# Altium schematic symbol library CDPcomponents.SchLib: 32 symbols
Pins are listed as number, name and electrical type; pins without a type are passive.

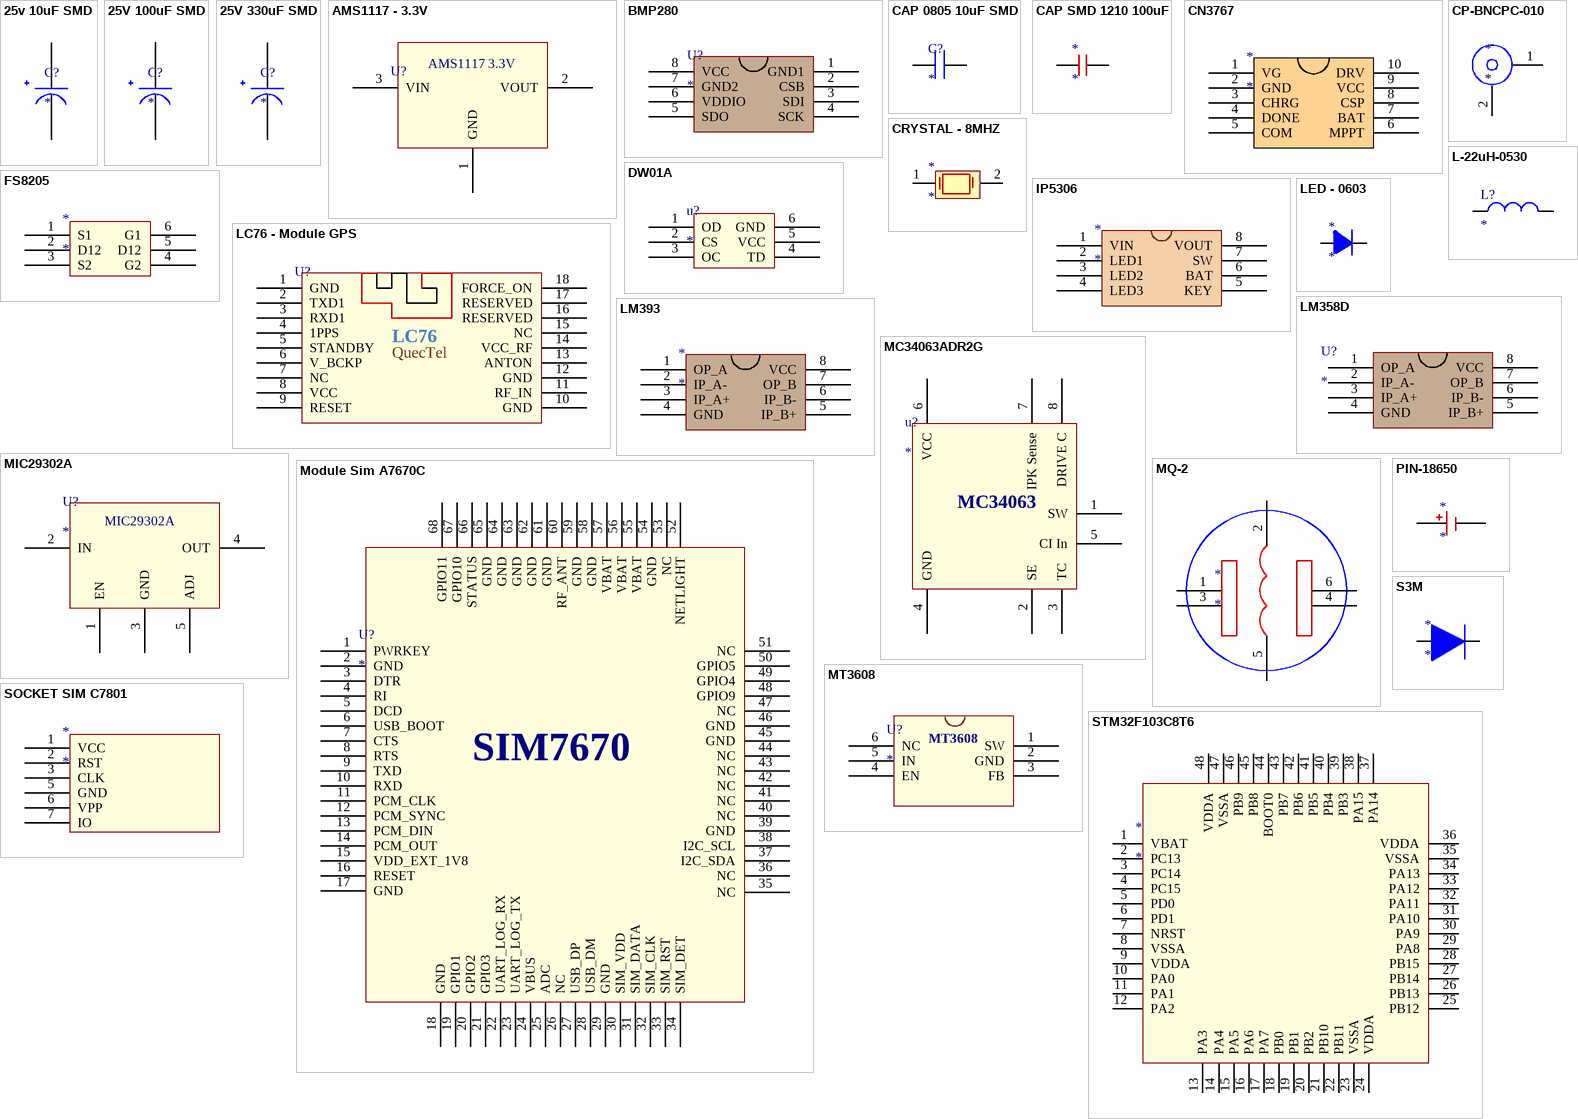
[diagram p0: symbols 25v 10uF SMD to STM32F103C8T6]

## 25v 10uF SMD
designator C?
footprint CAPACITOR 4x5.4mm
pins: 1, 2

## 25V 100uF SMD
designator C?
footprint CAPACITOR 6.3x7.7mm
pins: 1, 2

## 25V 330uF SMD
designator C?
footprint CAPACITOR 8x10mm SMD
pins: 1, 2

## AMS1117 - 3.3V
designator U?  (value not drawn)
footprint AMS1117 -3.3V
pins: 1 GND, 2 VOUT, 3 VIN
text: AMS1117; 3.3V

## BMP280
designator U?
footprint BMP280
pins: 1 GND1, 2 CSB, 3 SDI, 4 SCK, 5 SDO, 6 VDDIO, 7 GND2, 8 VCC

## CAP 0805 10uF SMD
designator C?
footprint CAP 10uF SMD 0805
pins: 1, 2

## CAP SMD 1210 100uF
designator *
footprint 100uF 1210 SMD
pins: 1, 2

## CN3767
designator *
footprint CN3767
pins: 1 VG, 2 GND, 3 CHRG, 4 DONE, 5 COM, 6 MPPT, 7 BAT, 8 CSP, 9 VCC, 10 DRV

## CP-BNCPC-010
designator *
footprint BNC
pins: 1, 2

## CRYSTAL - 8MHZ
designator *
footprint CRYSTAL - 8Mhz
pins: 1, 2

## DW01A
designator u?
footprint DW01A
pins: 1 OD, 2 CS, 3 OC, 4 TD, 5 VCC, 6 GND

## FS8205
designator *
footprint FS8205
pins: 1 S1, 2 D12, 3 S2, 4 G2, 5 D12, 6 G1

## IP5306
designator *
footprint IP5306
pins: 1 VIN, 2 LED1, 3 LED2, 4 LED3, 5 KEY, 6 BAT, 7 SW, 8 VOUT

## L-22uH-0530
designator L?
footprint INDUCTOR-0630-SMD
pins: 1, 2

## LC76 - Module GPS
designator U?, comment LC76 - Module GPS*  (value not drawn)
footprint LC76 - Module GPS (LC760Z00AAMD)
pins: 1 GND, 2 TXD1, 3 RXD1, 4 1PPS, 5 STANDBY, 6 V_BCKP, 7 NC, 8 VCC, 9 RESET, 10 GND, 11 RF_IN, 12 GND, 13 ANTON, 14 VCC_RF, 15 NC, 16 RESERVED, 17 RESERVED, 18 FORCE_ON
text: LC76; QuecTel

## LED - 0603
designator *
footprint LED - 0603
pins: 1 A, 2 K

## LM358D
designator U?
footprint LM358
pins: 1 OP_A, 2 IP_A-, 3 IP_A+, 4 GND, 5 IP_B+, 6 IP_B-, 7 OP_B, 8 VCC

## LM393
designator *
footprint lm393
pins: 1 OP_A, 2 IP_A-, 3 IP_A+, 4 GND, 5 IP_B+, 6 IP_B-, 7 OP_B, 8 VCC

## MC34063ADR2G
designator u?
footprint mc34063a
pins: 1 SW, 2 SE, 3 TC, 4 GND, 5 CI In, 6 VCC, 7 IPK Sense, 8 DRIVE C
text: MC34063

## MIC29302A
designator U?
footprint MIC29302A (MIC29302A - 3.3V 3A)
pins: 1 EN, 2 IN, 3 GND, 4 OUT, 5 ADJ

## Module Sim A7670C
designator U?
footprint Module Sim A7670C
pins: 1 PWRKEY, 2 GND, 3 DTR, 4 RI, 5 DCD, 6 USB_BOOT, 7 CTS, 8 RTS, 9 TXD, 10 RXD, 11 PCM_CLK, 12 PCM_SYNC, 13 PCM_DIN, 14 PCM_OUT, 15 VDD_EXT_1V8, 16 RESET, 17 GND, 18 GND, 19 GPIO1, 20 GPIO2, 21 GPIO3, 22 UART_LOG_RX, 23 UART_LOG_TX, 24 VBUS, 25 ADC, 26 NC, 27 USB_DP, 28 USB_DM, 29 GND, 30 SIM_VDD, 31 SIM_DATA, 32 SIM_CLK, 33 SIM_RST, 34 SIM_DET, 35 NC, 36 NC, 37 I2C_SDA, 38 I2C_SCL, 39 GND, 40 NC, 41 NC, 42 NC, 43 NC, 44 NC, 45 GND, 46 GND, 47 NC, 48 GPIO9, 49 GPIO4, 50 GPIO5, 51 NC, 52 NETLIGHT, 53 NC, 54 GND, 55 VBAT, 56 VBAT, 57 VBAT, 58 GND, 59 GND, 60 RF_ANT, 61 GND, 62 GND, 63 GND, 64 GND, 65 GND, 66 STATUS, 67 GPIO10, 68 GPIO11
text: SIM7670

## MQ-2
designator *
pins: 1, 2, 3, 4, 5, 6

## MT3608
designator U?
footprint MT3608
pins: 1 SW, 2 GND, 3 FB, 4 EN, 5 IN, 6 NC

## PIN-18650
designator *
footprint PIN
pins: 1, 2

## S3M
designator *
footprint S3M
pins: 1 A, 2 K

## SOCKET SIM C7801
designator *
footprint SOCKET SIM
pins: 1 VCC, 2 RST, 3 CLK, 5 GND, 6 VPP, 7 IO

## STM32F103C8T6
designator *
footprint STM32F103C8T6
pins: 1 VBAT, 2 PC13, 3 PC14, 4 PC15, 5 PD0, 6 PD1, 7 NRST, 8 VSSA, 9 VDDA, 10 PA0, 11 PA1, 12 PA2, 13 PA3, 14 PA4, 15 PA5, 16 PA6, 17 PA7, 18 PB0, 19 PB1, 20 PB2, 21 PB10, 22 PB11, 23 VSSA, 24 VDDA, 25 PB12, 26 PB13, 27 PB14, 28 PB15, 29 PA8, 30 PA9, 31 PA10, 32 PA11, 33 PA12, 34 PA13, 35 VSSA, 36 VDDA, 37 PA14, 38 PA15, 39 PB3, 40 PB4, 41 PB5, 42 PB6, 43 PB7, 44 BOOT0, 45 PB8, 46 PB9, 47 VSSA, 48 VDDA

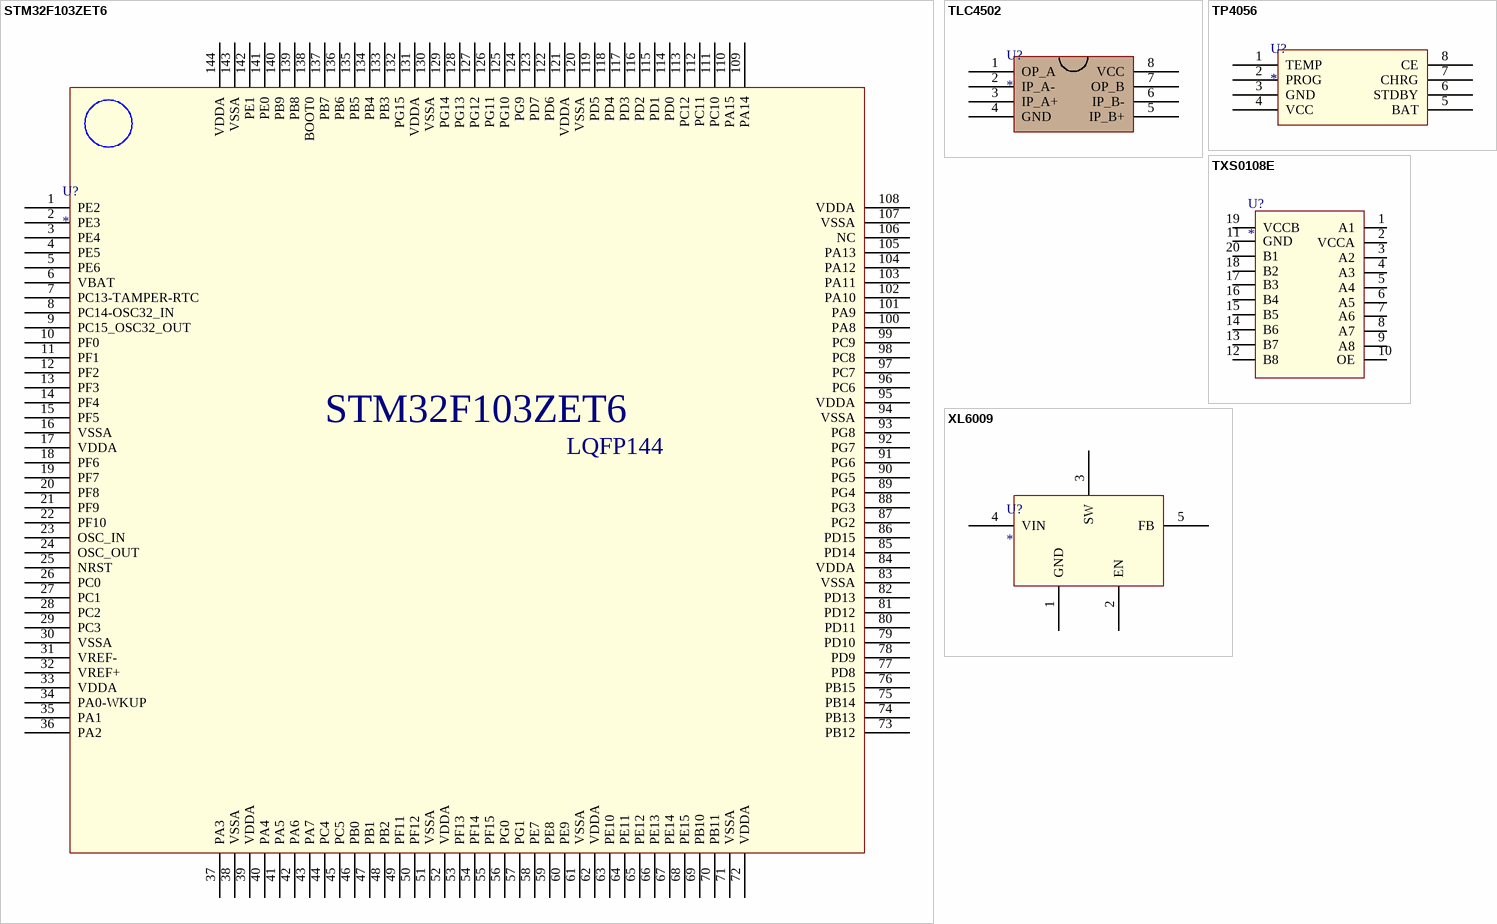
[diagram p1: symbols STM32F103ZET6 to XL6009]

## STM32F103ZET6
designator U?
footprint STM32F103ZET6 (STM32F103ZET6 - LQFP144)
pins: 1 PE2, 2 PE3, 3 PE4, 4 PE5, 5 PE6, 6 VBAT, 7 PC13-TAMPER-RTC, 8 PC14-OSC32_IN, 9 PC15_OSC32_OUT, 10 PF0, 11 PF1, 12 PF2, 13 PF3, 14 PF4, 15 PF5, 16 VSSA, 17 VDDA, 18 PF6, 19 PF7, 20 PF8, 21 PF9, 22 PF10, 23 OSC_IN, 24 OSC_OUT, 25 NRST, 26 PC0, 27 PC1, 28 PC2, 29 PC3, 30 VSSA, 31 VREF-, 32 VREF+, 33 VDDA, 34 PA0-WKUP, 35 PA1, 36 PA2, 37 PA3, 38 VSSA, 39 VDDA, 40 PA4, 41 PA5, 42 PA6, 43 PA7, 44 PC4, 45 PC5, 46 PB0, 47 PB1, 48 PB2, 49 PF11, 50 PF12, 51 VSSA, 52 VDDA, 53 PF13, 54 PF14, 55 PF15, 56 PG0, 57 PG1, 58 PE7, 59 PE8, 60 PE9, 61 VSSA, 62 VDDA, 63 PE10, 64 PE11, 65 PE12, 66 PE13, 67 PE14, 68 PE15, 69 PB10, 70 PB11, 71 VSSA, 72 VDDA, 73 PB12, 74 PB13, 75 PB14, 76 PB15, 77 PD8, 78 PD9, 79 PD10, 80 PD11, 81 PD12, 82 PD13, 83 VSSA, 84 VDDA, 85 PD14, 86 PD15, 87 PG2, 88 PG3, 89 PG4, 90 PG5, 91 PG6, 92 PG7, 93 PG8, 94 VSSA, 95 VDDA, 96 PC6, 97 PC7, 98 PC8, 99 PC9, 100 PA8, 101 PA9, 102 PA10, 103 PA11, 104 PA12, 105 PA13, 106 NC, 107 VSSA, 108 VDDA, 109 PA14, 110 PA15, 111 PC10, 112 PC11, 113 PC12, 114 PD0, 115 PD1, 116 PD2, 117 PD3, 118 PD4, 119 PD5, 120 VSSA, 121 VDDA, 122 PD6, 123 PD7, 124 PG9, 125 PG10, 126 PG11, 127 PG12, 128 PG13, 129 PG14, 130 VSSA, 131 VDDA, 132 PG15, 133 PB3, 134 PB4, 135 PB5, 136 PB6, 137 PB7, 138 BOOT0, 139 PB8, 140 PB9, 141 PE0, 142 PE1, 143 VSSA, 144 VDDA
text: LQFP144

## TLC4502
designator U?
footprint TLC4502
pins: 1 OP_A, 2 IP_A-, 3 IP_A+, 4 GND, 5 IP_B+, 6 IP_B-, 7 OP_B, 8 VCC

## TP4056
designator U?
footprint TP4056
pins: 1 TEMP, 2 PROG, 3 GND, 4 VCC, 5 BAT, 6 STDBY, 7 CHRG, 8 CE

## TXS0108E
designator U?
footprint TXS0108E
pins: 1 A1, 2 VCCA, 3 A2, 4 A3, 5 A4, 6 A5, 7 A6, 8 A7, 9 A8, 10 OE, 11 GND, 12 B8, 13 B7, 14 B6, 15 B5, 16 B4, 17 B3, 18 B2, 19 VCCB, 20 B1

## XL6009
designator U?
pins: 1 GND, 2 EN, 3 SW, 4 VIN, 5 FB